# EAGLE library part CDC208 (library TEABOX-LIB)
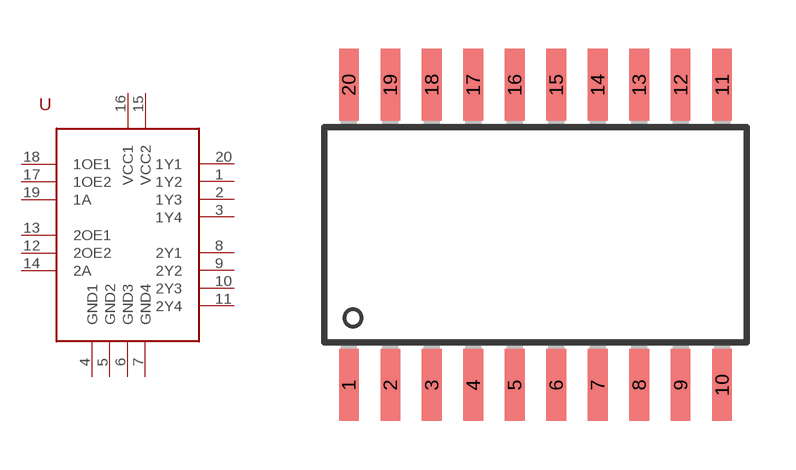
[diagram p6: symbol with the pads of SO-20DW; footprint SO-20DW]

Designator prefix -

## CDC208  [SO-20DW]
1  1Y2  out
2  1Y3  out
3  1Y4  out
4  GND1  pwr
5  GND2  pwr
6  GND3  pwr
7  GND4  pwr
8  2Y1  out
9  2Y2  out
10  2Y3  out
11  2Y4  out
12  2OE2  in
13  2OE1  in
14  2A  in
15  VCC2  pwr
16  VCC1  pwr
17  1OE2  in
18  1OE1  in
19  1A  in
20  1Y1  out

## Footprint SO-20DW (pad centres in mm)
Small Outline Integrated Circuit wide
smd 0.6 x 2.2: 1 -5.715,-4.6; 2 -4.445,-4.6; 3 -3.175,-4.6; 4 -1.905,-4.6; 5 -0.635,-4.6; 6 0.635,-4.6; 7 1.905,-4.6; 8 3.175,-4.6; 9 4.445,-4.6; 10 5.715,-4.6; 11 5.715,4.6; 12 4.445,4.6; 13 3.175,4.6; 14 1.905,4.6; 15 0.635,4.6; 16 -0.635,4.6; 17 -1.905,4.6; 18 -3.175,4.6; 19 -4.445,4.6; 20 -5.715,4.6